# EAGLE library part P80C652EBA/04,512 (library NXP_By_element14_Batch_1)
CMOS single-chip 8-bit microcontrollers
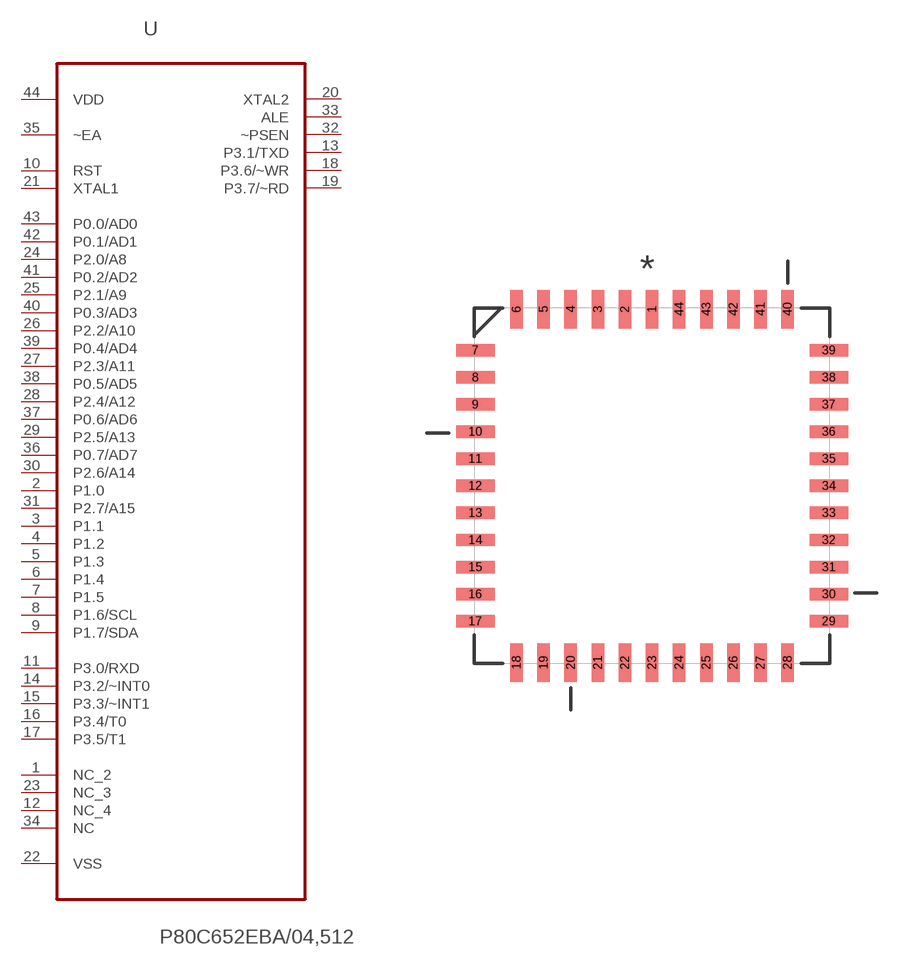
[diagram p393: symbol with the pads of PLCC127P1752X1752X457-44N; footprint PLCC127P1752X1752X457-44N]

Designator prefix U

## P80C652EBA/04,512 (MPN: P80C652EBA/04,512; OC_FARNELL: -; OC_NEWARK: 70R8454; PACKAGE: PLCC-44; SUPPLIER: NXP)  [PLCC127P1752X1752X457-44N]
1  NC_2  nc
2  P1.0
3  P1.1
4  P1.2
5  P1.3
6  P1.4
7  P1.5
8  P1.6/SCL
9  P1.7/SDA
10  RST  in
11  P3.0/RXD  in
12  NC_4  nc
13  P3.1/TXD  out
14  P3.2/~INT0  in
15  P3.3/~INT1  in
16  P3.4/T0  in
17  P3.5/T1  in
18  P3.6/~WR  out
19  P3.7/~RD  out
20  XTAL2  out
21  XTAL1  in
22  VSS  pas
23  NC_3  nc
24  P2.0/A8
25  P2.1/A9
26  P2.2/A10
27  P2.3/A11
28  P2.4/A12
29  P2.5/A13
30  P2.6/A14
31  P2.7/A15
32  ~PSEN  out
33  ALE
34  NC  nc
35  ~EA  in
36  P0.7/AD7
37  P0.6/AD6
38  P0.5/AD5
39  P0.4/AD4
40  P0.3/AD3
41  P0.2/AD2
42  P0.1/AD1
43  P0.0/AD0
44  VDD  pwr

## Footprint PLCC127P1752X1752X457-44N (pad centres in mm)
smd 0.584 x 1.803: 1 0,8.28; 2 -1.27,8.28; 3 -2.54,8.28; 4 -3.81,8.28; 5 -5.08,8.28; 6 -6.35,8.28; 18 -6.35,-8.28; 19 -5.08,-8.28; 20 -3.81,-8.28; 21 -2.54,-8.28; 22 -1.27,-8.28; 23 0,-8.28; 24 1.27,-8.28; 25 2.54,-8.28; 26 3.81,-8.28; 27 5.08,-8.28; 28 6.35,-8.28; 40 6.35,8.28; 41 5.08,8.28; 42 3.81,8.28; 43 2.54,8.28; 44 1.27,8.28
smd 1.803 x 0.584: 7 -8.28,6.35; 8 -8.28,5.08; 9 -8.28,3.81; 10 -8.28,2.54; 11 -8.28,1.27; 12 -8.28,0; 13 -8.28,-1.27; 14 -8.28,-2.54; 15 -8.28,-3.81; 16 -8.28,-5.08; 17 -8.28,-6.35; 29 8.28,-6.35; 30 8.28,-5.08; 31 8.28,-3.81; 32 8.28,-2.54; 33 8.28,-1.27; 34 8.28,0; 35 8.28,1.27; 36 8.28,2.54; 37 8.28,3.81; 38 8.28,5.08; 39 8.28,6.35